# Altium footprint library 1N4001.PcbLib: 2 footprints
Each footprint in its own frame and in the unit in brackets; x right, y up, seen from the top. Pads: shape width x height; smd on the part's side, far side on the other; paste and mask are expansions set on the pad; w line width, h text height; cw(c..) or ccw(c..) is an arc to the next point about the centre after c.
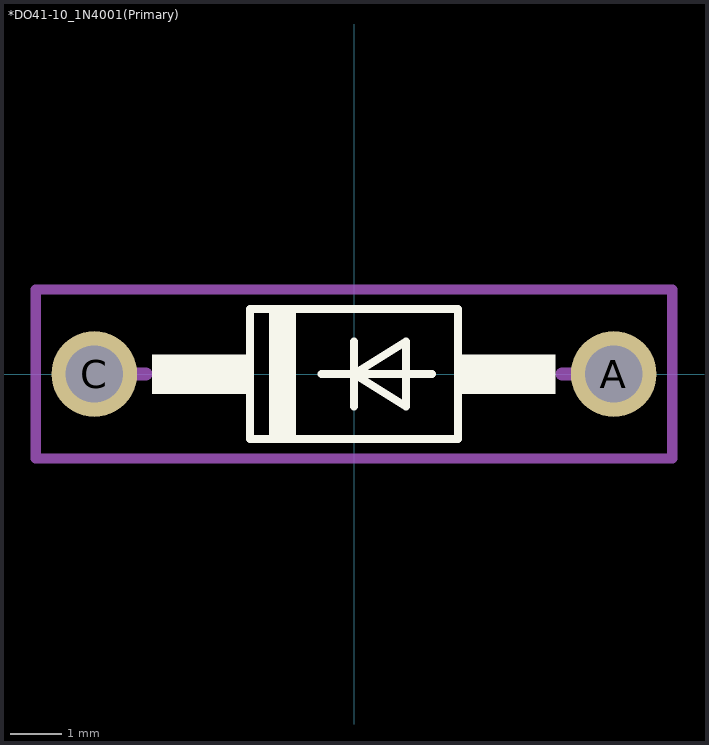
[diagram p0: the footprints below, top view; thin cyan lines are the x and y axes]

## *DO41-10_1N4001(Primary) [mil]
pads (2):
  round 66 hole 44: A(200,0) C(-200,0)
Top Overlay:
  region: -65.07,50 -45,50 -45,-50.06 -65.07,-50.06
  region: 80.13,15 155,15 155,-15.03 80.13,-15.03
  region: -155.2,15 -80,15 -80,-15.02 -155.2,-15.02
  lines w6: -25,0 0,0 ; 0,-25 0,0 ; 0,25 0,0 ; 60,0 0,0 ; 0,0 40,-25 40,25 0,0 ; -80,-50 80,-50 80,50 -80,50 -80,-50
Mechanical 1:
  lines w7.87: -245,-65 -112.5,-65 112.5,-65 163.12,-65 204.38,-65 245,-65 245,-43.75 245,65 -245,65 -245,23.75 -245,-28.75 -245,-65
Mechanical 4:
  lines w10: -200,0 -160,0 -200,0 ; 160,0 200,0 160,0

## PCBComponent_1 [mil]